# Altium schematic symbol library SparkFun-Connectors.SCHLIB: 425 symbols (part 1 of 12)
Pins are listed as number, name and electrical type; pins without a type are passive.

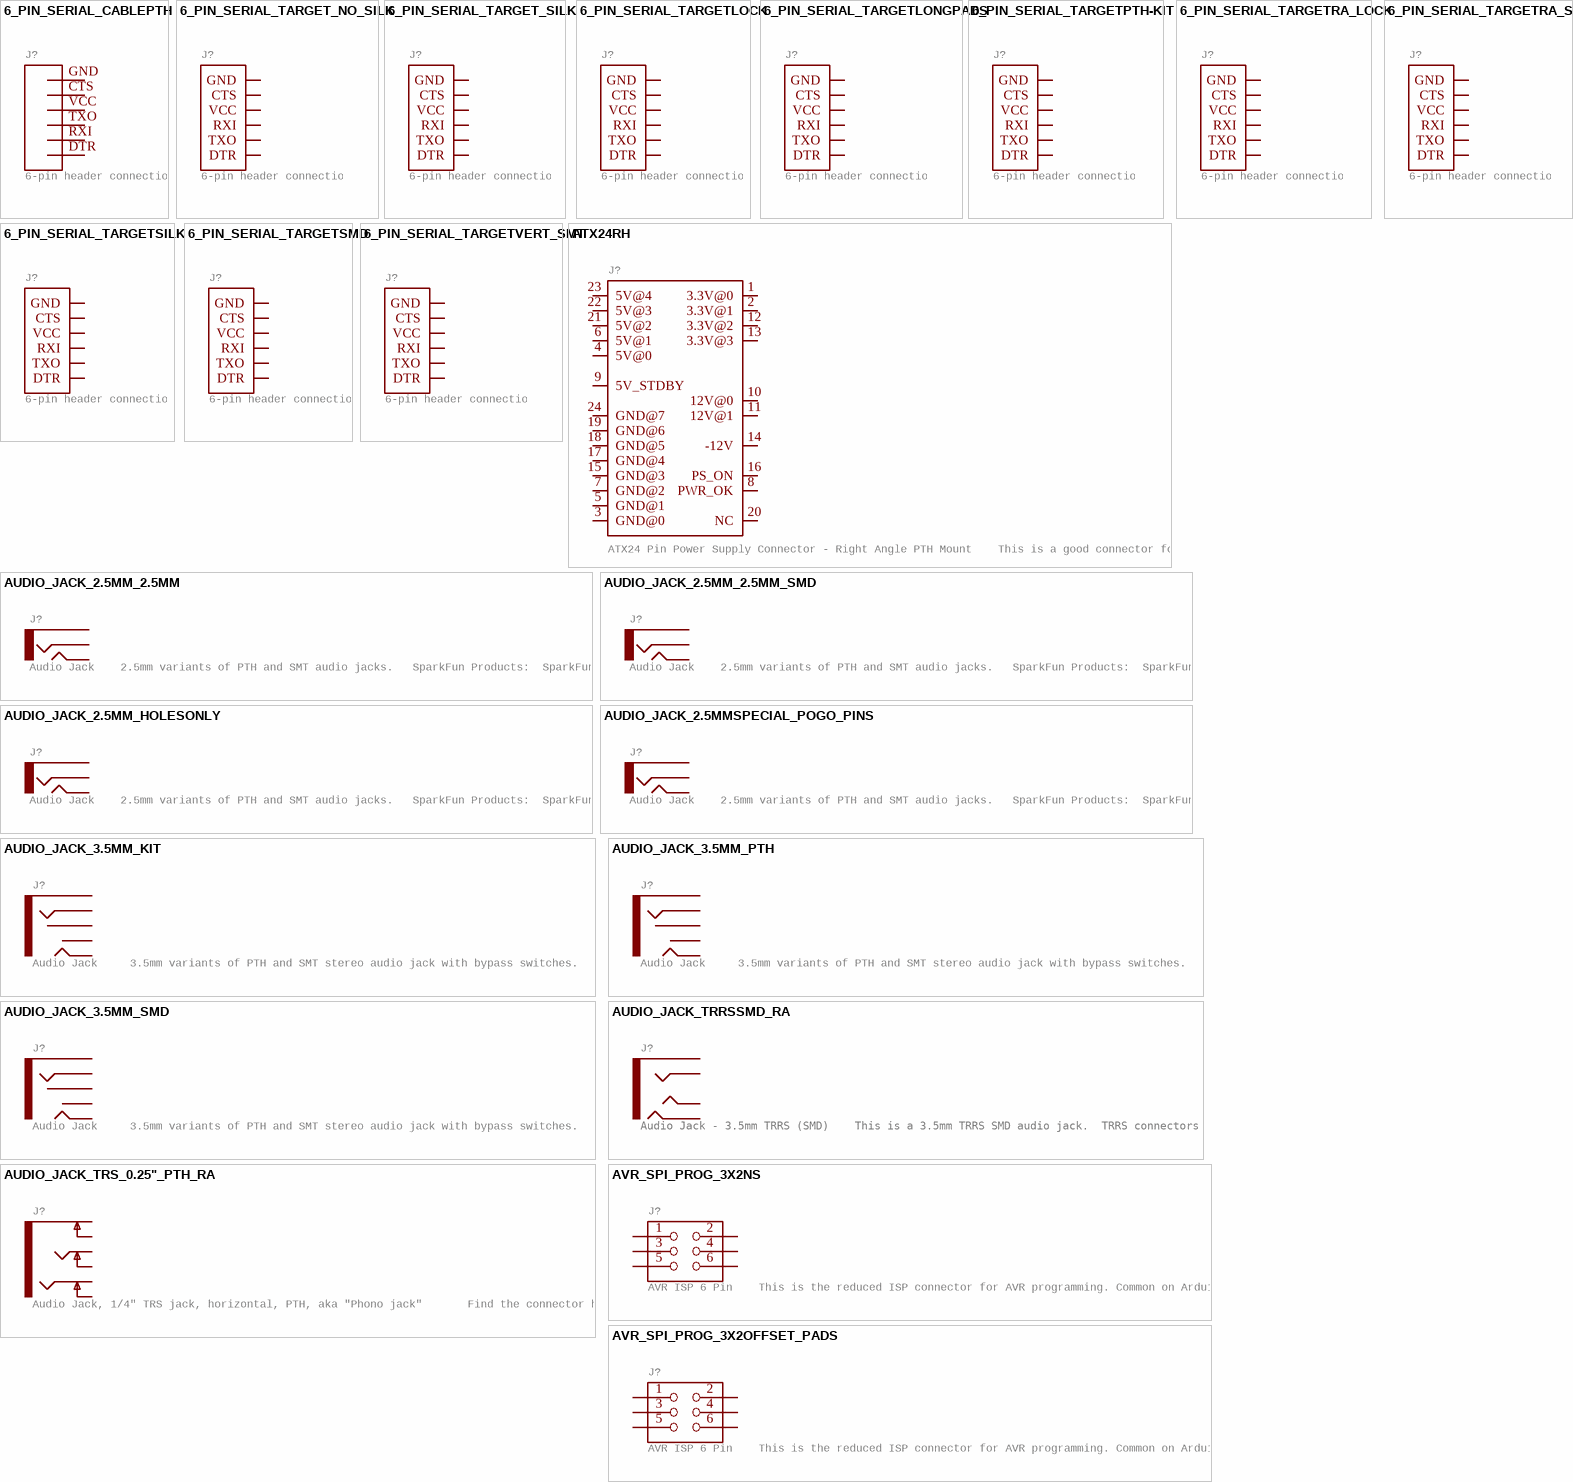
[diagram p0: symbols 6_PIN_SERIAL_CABLEPTH to AVR_SPI_PROG_3X2OFFSET_PADS]

## 6_PIN_SERIAL_CABLEPTH
designator J?, comment 6-pin header connection for use with the "FTDI BASIC" pinout - CABLE SIDE.     Also known as "Arduino Serial Program Header".    This is used on a design to provide a 6-pin connection point for serial communication usually from a USB cable (D+/D-) to these headers (RX/TX). It also has the remaining pins necessary for programming in the Arduino evironment (DTR, GND, and sometimes VCC).    Note, this device has "CABLE" in the name.  It is intended to be used on a design that usually lives on the end of your USB cable and prvides the converter chip (FTDI232 or FTDI231x) to commnicate serial RX/TX.     The "sister" device, named "TARGET" is inteneded to be used on a design that contains a target micro-controller that you wish to program.    You can populate with some of these:  Female Headers (PRT-00115)       For reference (or to suit your programming needs) check out these designs:   SparkFun FTDI Basic Breakout - 5V (DEV-09716)   SparkFun FTDI Basic Breakout - 3.3V (DEV-09873)   SparkFun FTDI SmartBasic (DEV-12935)   SparkFun Beefy 3 - FTDI Basic Breakout (DEV-13746)
GateName_1: G$1; SymbolName_1: CONN_06; DeviceName: PTH; DeviceSetName: 6_PIN_SERIAL_CABLE; LibraryName: SparkFun-Connectors; Package: FTDI_BASIC
footprint FTDI_BASIC
pins: CTS 5, DTR 1, GND 6, RXI 2, TXO 3, VCC 4

## 6_PIN_SERIAL_TARGET_NO_SILK
designator J?, comment 6-pin header connection for use with the "FTDI BASIC" pinout - TARGET SIDE.     Also known as "Arduino Serial Program Header".    It is used to mate with our FTDI Basic serial programmers using the Arduino IDE.    Note, this device has "TARGET" in the name. It is intended to be used on a design that contains a target micro-controller that you wish to program.    The "sister" device, named "CABLE" is inteneded to be used on a design that usually lives on the end of your USB cable and prvides the converter chip (FTDI232 or FTDI231x) to commnicate serial RX/TX.    You can populate with some of these:    Break Away Headers - Straight (PRT-00116)   For reference (or to suit your programming needs) check out these designs:   SparkFun FTDI Basic Breakout - 5V (DEV-09716)   SparkFun FTDI Basic Breakout - 3.3V (DEV-09873)   SparkFun FTDI SmartBasic (DEV-12935)   SparkFun Beefy 3 - FTDI Basic Breakout (DEV-13746)
GateName_1: G$1; SymbolName_1: ARDUINO_SERIAL_PROGRAM; DeviceName: _NO_SILK; DeviceSetName: 6_PIN_SERIAL_TARGET; LibraryName: SparkFun-Connectors; Package: 1X06_NO_SILK
footprint 1X06_NO_SILK
pins: 1 DTR, 2 RXI, 3 TXO, 4 VCC, 5 CTS, 6 GND

## 6_PIN_SERIAL_TARGET_SILK
designator J?, comment 6-pin header connection for use with the "FTDI BASIC" pinout - TARGET SIDE.     Also known as "Arduino Serial Program Header".    It is used to mate with our FTDI Basic serial programmers using the Arduino IDE.    Note, this device has "TARGET" in the name. It is intended to be used on a design that contains a target micro-controller that you wish to program.    The "sister" device, named "CABLE" is inteneded to be used on a design that usually lives on the end of your USB cable and prvides the converter chip (FTDI232 or FTDI231x) to commnicate serial RX/TX.    You can populate with some of these:    Break Away Headers - Straight (PRT-00116)   For reference (or to suit your programming needs) check out these designs:   SparkFun FTDI Basic Breakout - 5V (DEV-09716)   SparkFun FTDI Basic Breakout - 3.3V (DEV-09873)   SparkFun FTDI SmartBasic (DEV-12935)   SparkFun Beefy 3 - FTDI Basic Breakout (DEV-13746)
GateName_1: G$1; SymbolName_1: ARDUINO_SERIAL_PROGRAM; DeviceName: _SILK; DeviceSetName: 6_PIN_SERIAL_TARGET; LibraryName: SparkFun-Connectors; Package: 1X06
footprint 1X06
pins: 1 DTR, 2 RXI, 3 TXO, 4 VCC, 5 CTS, 6 GND

## 6_PIN_SERIAL_TARGETLOCK
designator J?, comment 6-pin header connection for use with the "FTDI BASIC" pinout - TARGET SIDE.     Also known as "Arduino Serial Program Header".    It is used to mate with our FTDI Basic serial programmers using the Arduino IDE.    Note, this device has "TARGET" in the name. It is intended to be used on a design that contains a target micro-controller that you wish to program.    The "sister" device, named "CABLE" is inteneded to be used on a design that usually lives on the end of your USB cable and prvides the converter chip (FTDI232 or FTDI231x) to commnicate serial RX/TX.    You can populate with some of these:    Break Away Headers - Straight (PRT-00116)   For reference (or to suit your programming needs) check out these designs:   SparkFun FTDI Basic Breakout - 5V (DEV-09716)   SparkFun FTDI Basic Breakout - 3.3V (DEV-09873)   SparkFun FTDI SmartBasic (DEV-12935)   SparkFun Beefy 3 - FTDI Basic Breakout (DEV-13746)
GateName_1: G$1; SymbolName_1: ARDUINO_SERIAL_PROGRAM; DeviceName: LOCK; DeviceSetName: 6_PIN_SERIAL_TARGET; PROD_ID: CONN-08437; LibraryName: SparkFun-Connectors; Package: 1X06_LOCK
footprint 1X06_LOCK
pins: 1 DTR, 2 RXI, 3 TXO, 4 VCC, 5 CTS, 6 GND

## 6_PIN_SERIAL_TARGETLONGPADS
designator J?, comment 6-pin header connection for use with the "FTDI BASIC" pinout - TARGET SIDE.     Also known as "Arduino Serial Program Header".    It is used to mate with our FTDI Basic serial programmers using the Arduino IDE.    Note, this device has "TARGET" in the name. It is intended to be used on a design that contains a target micro-controller that you wish to program.    The "sister" device, named "CABLE" is inteneded to be used on a design that usually lives on the end of your USB cable and prvides the converter chip (FTDI232 or FTDI231x) to commnicate serial RX/TX.    You can populate with some of these:    Break Away Headers - Straight (PRT-00116)   For reference (or to suit your programming needs) check out these designs:   SparkFun FTDI Basic Breakout - 5V (DEV-09716)   SparkFun FTDI Basic Breakout - 3.3V (DEV-09873)   SparkFun FTDI SmartBasic (DEV-12935)   SparkFun Beefy 3 - FTDI Basic Breakout (DEV-13746)
GateName_1: G$1; SymbolName_1: ARDUINO_SERIAL_PROGRAM; DeviceName: LONGPADS; DeviceSetName: 6_PIN_SERIAL_TARGET; LibraryName: SparkFun-Connectors; Package: 1X06_LONGPADS
footprint 1X06_LONGPADS
pins: 1 DTR, 2 RXI, 3 TXO, 4 VCC, 5 CTS, 6 GND

## 6_PIN_SERIAL_TARGETPTH-KIT
designator J?, comment 6-pin header connection for use with the "FTDI BASIC" pinout - TARGET SIDE.     Also known as "Arduino Serial Program Header".    It is used to mate with our FTDI Basic serial programmers using the Arduino IDE.    Note, this device has "TARGET" in the name. It is intended to be used on a design that contains a target micro-controller that you wish to program.    The "sister" device, named "CABLE" is inteneded to be used on a design that usually lives on the end of your USB cable and prvides the converter chip (FTDI232 or FTDI231x) to commnicate serial RX/TX.    You can populate with some of these:    Break Away Headers - Straight (PRT-00116)   For reference (or to suit your programming needs) check out these designs:   SparkFun FTDI Basic Breakout - 5V (DEV-09716)   SparkFun FTDI Basic Breakout - 3.3V (DEV-09873)   SparkFun FTDI SmartBasic (DEV-12935)   SparkFun Beefy 3 - FTDI Basic Breakout (DEV-13746)
GateName_1: G$1; SymbolName_1: ARDUINO_SERIAL_PROGRAM; DeviceName: PTH-KIT; DeviceSetName: 6_PIN_SERIAL_TARGET; LibraryName: SparkFun-Connectors; Package: 1X06-KIT
footprint 1X06-KIT
pins: 1 DTR, 2 RXI, 3 TXO, 4 VCC, 5 CTS, 6 GND

## 6_PIN_SERIAL_TARGETRA_LOCK
designator J?, comment 6-pin header connection for use with the "FTDI BASIC" pinout - TARGET SIDE.     Also known as "Arduino Serial Program Header".    It is used to mate with our FTDI Basic serial programmers using the Arduino IDE.    Note, this device has "TARGET" in the name. It is intended to be used on a design that contains a target micro-controller that you wish to program.    The "sister" device, named "CABLE" is inteneded to be used on a design that usually lives on the end of your USB cable and prvides the converter chip (FTDI232 or FTDI231x) to commnicate serial RX/TX.    You can populate with some of these:    Break Away Headers - Straight (PRT-00116)   For reference (or to suit your programming needs) check out these designs:   SparkFun FTDI Basic Breakout - 5V (DEV-09716)   SparkFun FTDI Basic Breakout - 3.3V (DEV-09873)   SparkFun FTDI SmartBasic (DEV-12935)   SparkFun Beefy 3 - FTDI Basic Breakout (DEV-13746)
GateName_1: G$1; SymbolName_1: ARDUINO_SERIAL_PROGRAM; DeviceName: RA_LOCK; DeviceSetName: 6_PIN_SERIAL_TARGET; LibraryName: SparkFun-Connectors; Package: MOLEX_1X6_RA_LOCK
footprint MOLEX_1X6_RA_LOCK
pins: 1 GND, 2 CTS, 3 VCC, 4 TXO, 5 RXI, 6 DTR

## 6_PIN_SERIAL_TARGETRA_SMT
designator J?, comment 6-pin header connection for use with the "FTDI BASIC" pinout - TARGET SIDE.     Also known as "Arduino Serial Program Header".    It is used to mate with our FTDI Basic serial programmers using the Arduino IDE.    Note, this device has "TARGET" in the name. It is intended to be used on a design that contains a target micro-controller that you wish to program.    The "sister" device, named "CABLE" is inteneded to be used on a design that usually lives on the end of your USB cable and prvides the converter chip (FTDI232 or FTDI231x) to commnicate serial RX/TX.    You can populate with some of these:    Break Away Headers - Straight (PRT-00116)   For reference (or to suit your programming needs) check out these designs:   SparkFun FTDI Basic Breakout - 5V (DEV-09716)   SparkFun FTDI Basic Breakout - 3.3V (DEV-09873)   SparkFun FTDI SmartBasic (DEV-12935)   SparkFun Beefy 3 - FTDI Basic Breakout (DEV-13746)
GateName_1: G$1; SymbolName_1: ARDUINO_SERIAL_PROGRAM; DeviceName: RA_SMT; DeviceSetName: 6_PIN_SERIAL_TARGET; PROD_ID: CONN-08971; LibraryName: SparkFun-Connectors; Package: 6_PIN_SERIAL_TARGET_SIDE_RA_SMT
footprint 6_PIN_SERIAL_TARGET_SIDE_RA_SMT
pins: 1 DTR, 2 TXO, 3 RXI, 4 VCC, 5 CTS, 6 GND

## 6_PIN_SERIAL_TARGETSILK
designator J?, comment 6-pin header connection for use with the "FTDI BASIC" pinout - TARGET SIDE.     Also known as "Arduino Serial Program Header".    It is used to mate with our FTDI Basic serial programmers using the Arduino IDE.    Note, this device has "TARGET" in the name. It is intended to be used on a design that contains a target micro-controller that you wish to program.    The "sister" device, named "CABLE" is inteneded to be used on a design that usually lives on the end of your USB cable and prvides the converter chip (FTDI232 or FTDI231x) to commnicate serial RX/TX.    You can populate with some of these:    Break Away Headers - Straight (PRT-00116)   For reference (or to suit your programming needs) check out these designs:   SparkFun FTDI Basic Breakout - 5V (DEV-09716)   SparkFun FTDI Basic Breakout - 3.3V (DEV-09873)   SparkFun FTDI SmartBasic (DEV-12935)   SparkFun Beefy 3 - FTDI Basic Breakout (DEV-13746)
GateName_1: G$1; SymbolName_1: ARDUINO_SERIAL_PROGRAM; DeviceName: SILK; DeviceSetName: 6_PIN_SERIAL_TARGET; LibraryName: SparkFun-Connectors; Package: 6_PIN_SERIAL_TARGET_SIDE_W_SILK
footprint 6_PIN_SERIAL_TARGET_SIDE_W_SILK
pins: 1 DTR, 2 TXO, 3 RXI, 4 VCC, 5 CTS, 6 GND

## 6_PIN_SERIAL_TARGETSMD
designator J?, comment 6-pin header connection for use with the "FTDI BASIC" pinout - TARGET SIDE.     Also known as "Arduino Serial Program Header".    It is used to mate with our FTDI Basic serial programmers using the Arduino IDE.    Note, this device has "TARGET" in the name. It is intended to be used on a design that contains a target micro-controller that you wish to program.    The "sister" device, named "CABLE" is inteneded to be used on a design that usually lives on the end of your USB cable and prvides the converter chip (FTDI232 or FTDI231x) to commnicate serial RX/TX.    You can populate with some of these:    Break Away Headers - Straight (PRT-00116)   For reference (or to suit your programming needs) check out these designs:   SparkFun FTDI Basic Breakout - 5V (DEV-09716)   SparkFun FTDI Basic Breakout - 3.3V (DEV-09873)   SparkFun FTDI SmartBasic (DEV-12935)   SparkFun Beefy 3 - FTDI Basic Breakout (DEV-13746)
GateName_1: G$1; SymbolName_1: ARDUINO_SERIAL_PROGRAM; DeviceName: SMD; DeviceSetName: 6_PIN_SERIAL_TARGET; PROD_ID: CONN-08971; LibraryName: SparkFun-Connectors; Package: 1X06-SMD_RA_MALE
footprint 1X06-SMD_RA_MALE
pins: 1 DTR, 2 RXI, 3 TXO, 4 VCC, 5 CTS, 6 GND

## 6_PIN_SERIAL_TARGETVERT_SMT
designator J?, comment 6-pin header connection for use with the "FTDI BASIC" pinout - TARGET SIDE.     Also known as "Arduino Serial Program Header".    It is used to mate with our FTDI Basic serial programmers using the Arduino IDE.    Note, this device has "TARGET" in the name. It is intended to be used on a design that contains a target micro-controller that you wish to program.    The "sister" device, named "CABLE" is inteneded to be used on a design that usually lives on the end of your USB cable and prvides the converter chip (FTDI232 or FTDI231x) to commnicate serial RX/TX.    You can populate with some of these:    Break Away Headers - Straight (PRT-00116)   For reference (or to suit your programming needs) check out these designs:   SparkFun FTDI Basic Breakout - 5V (DEV-09716)   SparkFun FTDI Basic Breakout - 3.3V (DEV-09873)   SparkFun FTDI SmartBasic (DEV-12935)   SparkFun Beefy 3 - FTDI Basic Breakout (DEV-13746)
GateName_1: G$1; SymbolName_1: ARDUINO_SERIAL_PROGRAM; DeviceName: VERT_SMT; DeviceSetName: 6_PIN_SERIAL_TARGET; PROD_ID: CONN-10203; LibraryName: SparkFun-Connectors; Package: 6_PIN_SERIAL_TARGET_SIDE_VERT_SMT
footprint 6_PIN_SERIAL_TARGET_SIDE_VERT_SMT
pins: 1,1-2 DTR, 2,2-2 TXO, 3,3-2 RXI, 4,4-2 VCC, 5,5-2 CTS, 6,6-2 GND

## ATX24RH
designator J?, comment ATX24 Pin Power Supply Connector - Right Angle PTH Mount    This is a good connector for connecting a computer power supply to a PCB. It's massive, but provides many amps of power at 5V and 12V.   SparkFun Products:  SparkFun Benchtop Power Board Kit  SparkFun Power Driver Shield Kit
GateName_1: G$1; SymbolName_1: ATX24-1; DeviceName: RH; PROD_ID: CONN-09674; SF_ID: PRT-09498; LibraryName: SparkFun-Connectors; DeviceSetName: ATX24; Package: ATX24_RIGHT_ANGLE
footprint ATX24_RIGHT_ANGLE
pins: 1 3.3V@0 (io), 2 3.3V@1 (io), 3 GND@0 (io), 4 5V@0 (io), 5 GND@1 (io), 6 5V@1 (io), 7 GND@2 (io), 8 PWR_OK (io), 9 5V_STDBY (io), 10 12V@0 (io), 11 12V@1 (io), 12 3.3V@2 (io), 13 3.3V@3 (io), 14 -12V (io), 15 GND@3 (io), 16 PS_ON (io), 17 GND@4 (io), 18 GND@5 (io), 19 GND@6 (io), 20 NC (io), 21 5V@2 (io), 22 5V@3 (io), 23 5V@4 (io), 24 GND@7 (io)

## AUDIO_JACK_2.5MM_2.5MM
designator J?, comment Audio Jack    2.5mm variants of PTH and SMT audio jacks.   SparkFun Products:  SparkFun PicoBoard- 2.5mm SMD
GateName_1: G$1; SymbolName_1: AUDIO-JACK; DeviceName: _2.5MM; DeviceSetName: AUDIO_JACK_2.5MM; PROD_ID: CONN-09878; LibraryName: SparkFun-Connectors; Package: STEREOJACK2.5MM_STEREOJACK2.5MM
footprint STEREOJACK2.5MM_STEREOJACK2.5MM
pins: RING1 SLEEVE (io), SHIELD LEFT (io), TIP RIGHT (io)

## AUDIO_JACK_2.5MM_2.5MM_SMD
designator J?, comment Audio Jack    2.5mm variants of PTH and SMT audio jacks.   SparkFun Products:  SparkFun PicoBoard- 2.5mm SMD
GateName_1: G$1; SymbolName_1: AUDIO-JACK; DeviceName: _2.5MM_SMD; DeviceSetName: AUDIO_JACK_2.5MM; PROD_ID: CONN-10062; LibraryName: SparkFun-Connectors; Package: STEREOJACK2.5MM
footprint STEREOJACK2.5MM
pins: 1 LEFT (io), 4 RIGHT (io), 5 SLEEVE (io)

## AUDIO_JACK_2.5MM_HOLESONLY
designator J?, comment Audio Jack    2.5mm variants of PTH and SMT audio jacks.   SparkFun Products:  SparkFun PicoBoard- 2.5mm SMD
GateName_1: G$1; SymbolName_1: AUDIO-JACK; DeviceName: _HOLESONLY; DeviceSetName: AUDIO_JACK_2.5MM; LibraryName: SparkFun-Connectors; Package: STEREOJACK2.5MM_SPECIAL_HOLES-ONLY
footprint STEREOJACK2.5MM_SPECIAL_HOLES-ONLY
pins: RING1 SLEEVE (io), SHIELD LEFT (io), TIP RIGHT (io)

## AUDIO_JACK_2.5MMSPECIAL_POGO_PINS
designator J?, comment Audio Jack    2.5mm variants of PTH and SMT audio jacks.   SparkFun Products:  SparkFun PicoBoard- 2.5mm SMD
GateName_1: G$1; SymbolName_1: AUDIO-JACK; DeviceName: SPECIAL_POGO_PINS; DeviceSetName: AUDIO_JACK_2.5MM; LibraryName: SparkFun-Connectors; Package: STEREOJACK2.5MM_SPECIAL_POGOPINS
footprint STEREOJACK2.5MM_SPECIAL_POGOPINS
pins: RING1 SLEEVE (io), SHIELD LEFT (io), TIP RIGHT (io)

## AUDIO_JACK_3.5MM_KIT
designator J?, comment Audio Jack     3.5mm variants of PTH and SMT stereo audio jack with bypass switches.   SparkFun Products:  SparkFun SparkPunk Sound Kit  - PTH  MP3 Trigger -3.5mm SMD  SparkFun PicoBoard- 2.5mm SMD
GateName_1: G$1; SymbolName_1: AUDIO-JACK2; DeviceName: _KIT; DeviceSetName: AUDIO_JACK_3.5MM; PROD_ID: CONN-08774; SF_ID: PRT-08032; LibraryName: SparkFun-Connectors; Package: AUDIO-JACK-KIT
footprint AUDIO-JACK-KIT
pins: RING (io), RSH (io), SLEEVE (io), TIP (io), TSH (io)

## AUDIO_JACK_3.5MM_PTH
designator J?, comment Audio Jack     3.5mm variants of PTH and SMT stereo audio jack with bypass switches.   SparkFun Products:  SparkFun SparkPunk Sound Kit  - PTH  MP3 Trigger -3.5mm SMD  SparkFun PicoBoard- 2.5mm SMD
GateName_1: G$1; SymbolName_1: AUDIO-JACK2; DeviceName: _PTH; DeviceSetName: AUDIO_JACK_3.5MM; PROD_ID: CONN-08774; SF_ID: PRT-08032; LibraryName: SparkFun-Connectors; Package: AUDIO-JACK
footprint AUDIO-JACK
pins: RING (io), RSH (io), SLEEVE (io), TIP (io), TSH (io)

## AUDIO_JACK_3.5MM_SMD
designator J?, comment Audio Jack     3.5mm variants of PTH and SMT stereo audio jack with bypass switches.   SparkFun Products:  SparkFun SparkPunk Sound Kit  - PTH  MP3 Trigger -3.5mm SMD  SparkFun PicoBoard- 2.5mm SMD
GateName_1: G$1; SymbolName_1: AUDIO-JACK2; DeviceName: _SMD; DeviceSetName: AUDIO_JACK_3.5MM; PROD_ID: CONN-10353; LibraryName: SparkFun-Connectors; Package: AUDIO-JACK-3.5MM-SMD
footprint AUDIO-JACK-3.5MM-SMD
pins: RING (io), RSH (io), SLEEVE (io), TIP (io), TSH (io)

## AUDIO_JACK_TRRSSMD_RA
designator J?, comment Audio Jack - 3.5mm TRRS (SMD)    This is a 3.5mm TRRS SMD audio jack.  TRRS connectors are the audio-style connectors that you see on some phones, MP3 players and development boards.  TRRS stands for â€œtip, ring, ring, sleeve,â€ which reflects that this  has three conductors and a ground.    SparkFun Products: Audio Jack  mbed Starter Kit  SparkFun TRRS 3.5mm Jack Breakout
GateName_1: G$1; SymbolName_1: AUDIO-JACK3-TRRS; DeviceName: SMD_RA; DeviceSetName: AUDIO_JACK_TRRS; PROD_ID: CONN-10676; SF_ID: PRT-12639; LibraryName: SparkFun-Connectors; Package: AUDIO_JACK_3.5MM_TRRS_SMD_RA
footprint AUDIO_JACK_3.5MM_TRRS_SMD_RA
pins: EARTH (io), RING1 (io), RING2 (io), TIP (io)

## AUDIO_JACK_TRS_0.25"_PTH_RA
designator J?, comment Audio Jack, 1/4" TRS jack, horizontal, PTH, aka "Phono jack"       Find the connector here:  Audio Jack - 1/4" Stereo (right angle) (COM-11144)  Datasheet  Note, although the datasheet and physical part are slightly different, this footprint was proven to mate well on the Proto Pedal.          This device is used on these SparkFun Products:  SparkFun TRS Jack Breakout - 1/4" Stereo (BOB-13005 )   SparkFun Proto Pedal - sorry bad link - product comming soon! (PRT-13124)
GateName_1: G$1; SymbolName_1: AUDIO-JACK4-TRS-NORMALED-GND-1; DeviceSetName: AUDIO_JACK_TRS_0.25"_PTH_RA; PROD_ID: CONN-12339; LibraryName: SparkFun-Connectors; Package: AUDIO_JACK_0.25"_TRS_PTH_RA; SF_ID: COM-11144
footprint AUDIO_JACK_0.25"_TRS_PTH_RA
pins: RING (io), RING-NORM (io), SLEEVE EARTH (io), SLEEVE-NORM EARTH-NORM (io), TIP (io), TIP-NORM (io)

## AVR_SPI_PROG_3X2NS
designator J?, comment AVR ISP 6 Pin    This is the reduced ISP connector for AVR programming. Common on Arduino. This footprint will take up less PCB space and can be used with a 10-pin to 6-pin adapter such as SKU: BOB-08508   **Special note about "TEST_POINT" package. The stop mask is on the top side, so if you want your programming test points to be on the bottom of your board, make sure to place this package on the bottom side of the board. This also ensure that the orientation to program from the bottom side will be correct.   SparkFun Products:  SparkFun ISP Pogo Adapter - NS  Tiny AVR Programmer -PTH
GateName_1: G$1; SymbolName_1: AVR_SPI_PROGRAMMER_6; DeviceSetName: AVR_SPI_PROG_3X2; DeviceName: NS; LibraryName: SparkFun-Connectors; Package: 2X3-NS
footprint 2X3-NS
pins: 1, 2, 3, 4, 5, 6

## AVR_SPI_PROG_3X2OFFSET_PADS
designator J?, comment AVR ISP 6 Pin    This is the reduced ISP connector for AVR programming. Common on Arduino. This footprint will take up less PCB space and can be used with a 10-pin to 6-pin adapter such as SKU: BOB-08508   **Special note about "TEST_POINT" package. The stop mask is on the top side, so if you want your programming test points to be on the bottom of your board, make sure to place this package on the bottom side of the board. This also ensure that the orientation to program from the bottom side will be correct.   SparkFun Products:  SparkFun ISP Pogo Adapter - NS  Tiny AVR Programmer -PTH
GateName_1: G$1; SymbolName_1: AVR_SPI_PROGRAMMER_6; DeviceName: OFFSET_PADS; DeviceSetName: AVR_SPI_PROG_3X2; LibraryName: SparkFun-Connectors; Package: 2X3_OFFSET
footprint 2X3_OFFSET
pins: 1, 2, 3, 4, 5, 6

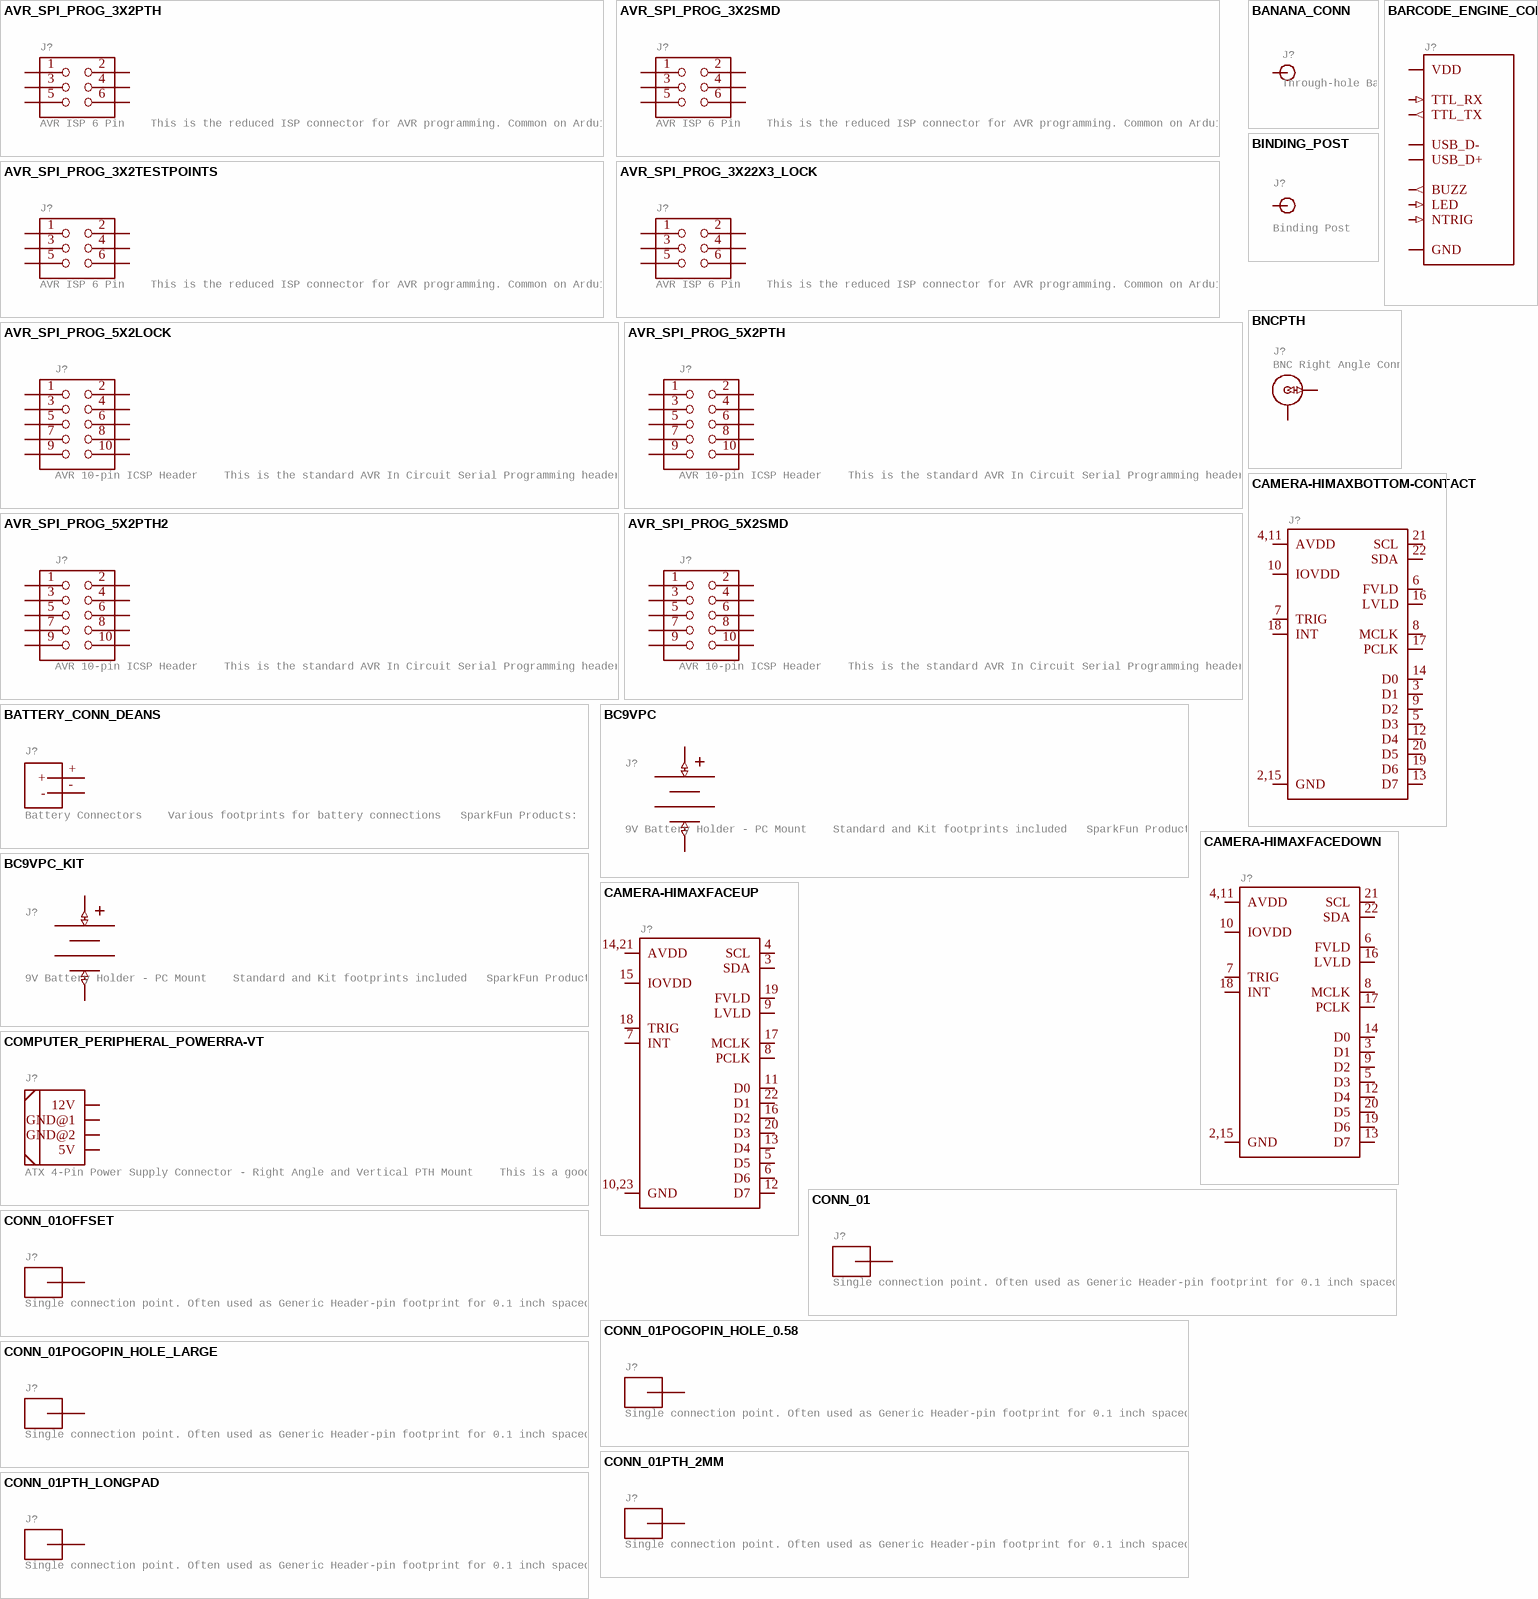
[diagram p1: symbols AVR_SPI_PROG_3X2PTH to CONN_01PTH_LONGPAD]

## AVR_SPI_PROG_3X2PTH
designator J?, comment AVR ISP 6 Pin    This is the reduced ISP connector for AVR programming. Common on Arduino. This footprint will take up less PCB space and can be used with a 10-pin to 6-pin adapter such as SKU: BOB-08508   **Special note about "TEST_POINT" package. The stop mask is on the top side, so if you want your programming test points to be on the bottom of your board, make sure to place this package on the bottom side of the board. This also ensure that the orientation to program from the bottom side will be correct.   SparkFun Products:  SparkFun ISP Pogo Adapter - NS  Tiny AVR Programmer -PTH
GateName_1: G$1; SymbolName_1: AVR_SPI_PROGRAMMER_6; DeviceName: PTH; DeviceSetName: AVR_SPI_PROG_3X2; LibraryName: SparkFun-Connectors; Package: 2X3
footprint 2X3
pins: 1, 2, 3, 4, 5, 6

## AVR_SPI_PROG_3X2SMD
designator J?, comment AVR ISP 6 Pin    This is the reduced ISP connector for AVR programming. Common on Arduino. This footprint will take up less PCB space and can be used with a 10-pin to 6-pin adapter such as SKU: BOB-08508   **Special note about "TEST_POINT" package. The stop mask is on the top side, so if you want your programming test points to be on the bottom of your board, make sure to place this package on the bottom side of the board. This also ensure that the orientation to program from the bottom side will be correct.   SparkFun Products:  SparkFun ISP Pogo Adapter - NS  Tiny AVR Programmer -PTH
GateName_1: G$1; SymbolName_1: AVR_SPI_PROGRAMMER_6; DeviceName: SMD; DeviceSetName: AVR_SPI_PROG_3X2; LibraryName: SparkFun-Connectors; Package: 2X3_SMT_POSTS
footprint 2X3_SMT_POSTS
pins: 1, 2, 3, 4, 5, 6

## AVR_SPI_PROG_3X2TESTPOINTS
designator J?, comment AVR ISP 6 Pin    This is the reduced ISP connector for AVR programming. Common on Arduino. This footprint will take up less PCB space and can be used with a 10-pin to 6-pin adapter such as SKU: BOB-08508   **Special note about "TEST_POINT" package. The stop mask is on the top side, so if you want your programming test points to be on the bottom of your board, make sure to place this package on the bottom side of the board. This also ensure that the orientation to program from the bottom side will be correct.   SparkFun Products:  SparkFun ISP Pogo Adapter - NS  Tiny AVR Programmer -PTH
GateName_1: G$1; SymbolName_1: AVR_SPI_PROGRAMMER_6; DeviceSetName: AVR_SPI_PROG_3X2; DeviceName: TESTPOINTS; LibraryName: SparkFun-Connectors; Package: 2X3_TEST_POINTS
footprint 2X3_TEST_POINTS
pins: 1, 2, 3, 4, 5, 6

## AVR_SPI_PROG_3X22X3_LOCK
designator J?, comment AVR ISP 6 Pin    This is the reduced ISP connector for AVR programming. Common on Arduino. This footprint will take up less PCB space and can be used with a 10-pin to 6-pin adapter such as SKU: BOB-08508   **Special note about "TEST_POINT" package. The stop mask is on the top side, so if you want your programming test points to be on the bottom of your board, make sure to place this package on the bottom side of the board. This also ensure that the orientation to program from the bottom side will be correct.   SparkFun Products:  SparkFun ISP Pogo Adapter - NS  Tiny AVR Programmer -PTH
GateName_1: G$1; SymbolName_1: AVR_SPI_PROGRAMMER_6; DeviceName: 2X3_LOCK; DeviceSetName: AVR_SPI_PROG_3X2; LibraryName: SparkFun-Connectors; Package: 2X3_LOCK
footprint 2X3_LOCK
pins: 1, 2, 3, 4, 5, 6

## AVR_SPI_PROG_5X2LOCK
designator J?, comment AVR 10-pin ICSP Header    This is the standard AVR In Circuit Serial Programming header. Minimal, but includes pin one indicator. Works with standard Olimex programmers.    SparkFun Products:  2x5 AVR ICSP Male Header - PTH  2x5 Pin Shrouded Header - PTH2
GateName_1: G$1; SymbolName_1: AVR_SPI_PROGRAMMER; DeviceName: LOCK; DeviceSetName: AVR_SPI_PROG_5X2; PROD_ID: CONN-08671; SF_ID: PRT-08506; LibraryName: SparkFun-Connectors; Package: 2X5-SHROUDED_LOCK
footprint 2X5-SHROUDED_LOCK
pins: 1 MOSI, 2 VCC (power), 3 NC, 4 GND@1 (power), 5 RESET, 6 GND@2 (power), 7 SCK, 8 GND@3 (power), 9 MISO, 10 GND@4 (power)

## AVR_SPI_PROG_5X2PTH
designator J?, comment AVR 10-pin ICSP Header    This is the standard AVR In Circuit Serial Programming header. Minimal, but includes pin one indicator. Works with standard Olimex programmers.    SparkFun Products:  2x5 AVR ICSP Male Header - PTH  2x5 Pin Shrouded Header - PTH2
GateName_1: G$1; SymbolName_1: AVR_SPI_PROGRAMMER; DeviceSetName: AVR_SPI_PROG_5X2; DeviceName: PTH; LibraryName: SparkFun-Connectors; Package: 2X5
footprint 2X5
pins: 1 MOSI, 2 VCC (power), 3 NC, 4 GND@1 (power), 5 RESET, 6 GND@2 (power), 7 SCK, 8 GND@3 (power), 9 MISO, 10 GND@4 (power)

## AVR_SPI_PROG_5X2PTH2
designator J?, comment AVR 10-pin ICSP Header    This is the standard AVR In Circuit Serial Programming header. Minimal, but includes pin one indicator. Works with standard Olimex programmers.    SparkFun Products:  2x5 AVR ICSP Male Header - PTH  2x5 Pin Shrouded Header - PTH2
GateName_1: G$1; SymbolName_1: AVR_SPI_PROGRAMMER; DeviceSetName: AVR_SPI_PROG_5X2; PROD_ID: CONN-08671; SF_ID: PRT-08506; DeviceName: PTH2; LibraryName: SparkFun-Connectors; Package: 2X5-SHROUDED
footprint 2X5-SHROUDED
pins: 1 MOSI, 2 VCC (power), 3 NC, 4 GND@1 (power), 5 RESET, 6 GND@2 (power), 7 SCK, 8 GND@3 (power), 9 MISO, 10 GND@4 (power)

## AVR_SPI_PROG_5X2SMD
designator J?, comment AVR 10-pin ICSP Header    This is the standard AVR In Circuit Serial Programming header. Minimal, but includes pin one indicator. Works with standard Olimex programmers.    SparkFun Products:  2x5 AVR ICSP Male Header - PTH  2x5 Pin Shrouded Header - PTH2
GateName_1: G$1; SymbolName_1: AVR_SPI_PROGRAMMER; DeviceName: SMD; DeviceSetName: AVR_SPI_PROG_5X2; LibraryName: SparkFun-Connectors; Package: 2X5-SHROUDED_SMD
footprint 2X5-SHROUDED_SMD
pins: 1 MOSI, 2 VCC (power), 3 NC, 4 GND@1 (power), 5 RESET, 6 GND@2 (power), 7 SCK, 8 GND@3 (power), 9 MISO, 10 GND@4 (power)

## BANANA_CONN
designator J?, comment Through-hole Banana Jack    Basic PTH connection for banana jack plugs   SparkFun Products:  Multimeter Kit  Banana to Alligator Cable  Banana to Alligator Coax Cable  Banana to Banana Cable  Banana to IC Hook Cables
GateName_1: G$1; SymbolName_1: BANANA_CONN; LibraryName: SparkFun-Connectors; DeviceSetName: BANANA_CONN; Package: BANANA_CONN
footprint BANANA_CONN
pins: P$1 1

## BARCODE_ENGINE_CONN
designator J?
GateName_1: G$1; SymbolName_1: E3000H_BARCODE_CONN; DeviceSetName: BARCODE_ENGINE_CONN; LibraryName: SparkFun-Connectors; Package: CONN_FPC_BOTTOM_12POS_.5MM_R/A
footprint CONN_FPC_BOTTOM_12POS_.5MM_R/A
pins: P$1 NTRIG (in), P$3 LED (in), P$4 BUZZ (out), P$6 USB_D+ (io), P$7 USB_D- (io), P$8 TTL_TX (out), P$9 TTL_RX (in), P$10,13,14 GND (power), P$11 VDD (power)

## BATTERY_CONN_DEANS
designator J?, comment Battery Connectors    Various footprints for battery connections   SparkFun Products:  Deans Connector -M/F Pair
GateName_1: G$1; SymbolName_1: BATTERY_CONN; DeviceName: _DEANS; SF_ID: PRT-11864; LibraryName: SparkFun-Connectors; DeviceSetName: BATTERY_CONN; Package: DEANS
footprint DEANS
pins: +, -

## BC9VPC
designator J?, comment 9V Battery Holder - PC Mount    Standard and Kit footprints included   SparkFun Products:  SparkFun SparkPunk Sound Kit  SparkFun SparkPunk Sequencer Kit
GateName_1: G$1; SymbolName_1: BC9VPC; PROD_ID: BATT-10855; LibraryName: SparkFun-Connectors; DeviceSetName: BC9VPC; Package: BC9VPC
footprint BC9VPC
pins: V+ (io), V- (io)

## BC9VPC_KIT
designator J?, comment 9V Battery Holder - PC Mount    Standard and Kit footprints included   SparkFun Products:  SparkFun SparkPunk Sound Kit  SparkFun SparkPunk Sequencer Kit
GateName_1: G$1; SymbolName_1: BC9VPC; DeviceName: _KIT; PROD_ID: BATT-10855; LibraryName: SparkFun-Connectors; DeviceSetName: BC9VPC; Package: BC9VPC_KIT
footprint BC9VPC_KIT
pins: V+ (io), V- (io)

## BINDING_POST
designator J?, comment Binding Post    The component itself has an threaded, insulated body that goes through the board, with a small threaded metal stud coming off the back.     The intent of this package is that the post goes through a milled obling hole, and a small wire would be used to connect from the PCB pad to the metal contact on the post.    SparkFun Products: SparkFun Decade Resistance Box  SparkFun Benchtop Power Board Kit  Binding Post - Red  Binding Post - Black
GateName_1: G$1; SymbolName_1: BINDING_POST; PROD_ID: CONN-09675; SF_ID: PRT-09740; LibraryName: SparkFun-Connectors; DeviceSetName: BINDING_POST; Package: BINDING_POST
footprint BINDING_POST
pins: P$1 (io)

## BNCPTH
designator J?, comment BNC Right Angle Connector    Mouser Part# 5227161   SparkFun Products: BNC Connector - Right Angle
GateName_1: G$1; DeviceName: PTH; PROD_ID: LPA-12729; SF_ID: PRT-10550; SymbolName_1: BNC; LibraryName: SparkFun-Connectors; DeviceSetName: BNC; Package: BNC
footprint BNC
pins: GND (io), S OUT (io)

## CAMERA-HIMAXBOTTOM-CONTACT
designator J?
GateName_1: G$1; SymbolName_1: CAMERA-OV7670-MODULE; DeviceName: BOTTOM-CONTACT; DeviceSetName: CAMERA-HIMAX; PROD_ID: CONN-14233; LibraryName: SparkFun-Connectors; Package: FPC-24-AMPHENOL-SFV24R-1STE1HLF; DIGIKEY: 609-4320-2-ND
footprint FPC-24-AMPHENOL-SFV24R-1STE1HLF
pins: 2,15 GND (io), 3 D1 (io), 4,11 AVDD (io), 5 D3 (io), 6 FVLD (io), 7 TRIG (io), 8 MCLK (io), 9 D2 (io), 10 IOVDD (io), 12 D4 (io), 13 D7 (io), 14 D0 (io), 16 LVLD (io), 17 PCLK (io), 18 INT (io), 19 D6 (io), 20 D5 (io), 21 SCL (io), 22 SDA (io), MNT110,11 MNT1 (io), MNT220,21 MNT2 (io)

## CAMERA-HIMAXFACEDOWN
designator J?
GateName_1: G$1; SymbolName_1: CAMERA-OV7670-MODULE; DeviceName: FACEDOWN; DeviceSetName: CAMERA-HIMAX; PROD_ID: CONN-14195; LibraryName: SparkFun-Connectors; Package: FPC05024-42201
footprint FPC05024-42201
pins: 2,15 GND (io), 3 D1 (io), 4,11 AVDD (io), 5 D3 (io), 6 FVLD (io), 7 TRIG (io), 8 MCLK (io), 9 D2 (io), 10 IOVDD (io), 12 D4 (io), 13 D7 (io), 14 D0 (io), 16 LVLD (io), 17 PCLK (io), 18 INT (io), 19 D6 (io), 20 D5 (io), 21 SCL (io), 22 SDA (io), MNT1 (io), MNT2 (io)

## CAMERA-HIMAXFACEUP
designator J?
GateName_1: G$1; SymbolName_1: CAMERA-OV7670-MODULE; DeviceName: FACEUP; DeviceSetName: CAMERA-HIMAX; LibraryName: SparkFun-Connectors; Package: FPC05024-42201
footprint FPC05024-42201
pins: 3 SDA (io), 4 SCL (io), 5 D5 (io), 6 D6 (io), 7 INT (io), 8 PCLK (io), 9 LVLD (io), 10,23 GND (io), 11 D0 (io), 12 D7 (io), 13 D4 (io), 14,21 AVDD (io), 15 IOVDD (io), 16 D2 (io), 17 MCLK (io), 18 TRIG (io), 19 FVLD (io), 20 D3 (io), 22 D1 (io), MNT1 (io), MNT2 (io)

## COMPUTER_PERIPHERAL_POWERRA-VT
designator J?, comment ATX 4-Pin Power Supply Connector - Right Angle and Vertical PTH Mount    This is a good connector for connecting a computer power supply to a PCB. It is commonly known as the Molex series 8981 connector. The footprint is adjusted for the right angle and vertical connector mounts.   SparkFun Products:  ATX Connector Breakout Board  ATX Right Angle Connector - PTH 4-Pin  SparkFun ATX Power Connector Breakout Kit - 12V/5V (4-pin)
GateName_1: G$1; SymbolName_1: COMPUTER-PERIPHERAL-POWER; DeviceName: RA-VT; DeviceSetName: COMPUTER_PERIPHERAL_POWER; PROD_ID: PRT-15700; LibraryName: SparkFun-Connectors; Package: COMPUTER-PERIPHERAL-POWER-RA-VT
footprint COMPUTER-PERIPHERAL-POWER-RA-VT
pins: 5V, 12V, GND@1 GND@2, GND@2 GND@1

## CONN_01
designator J?, comment Single connection point. Often used as Generic Header-pin footprint for 0.1 inch spaced/style header connections       On any of the 0.1 inch spaced packages, you can populate with these:   Break Away Headers - Straight (PRT-00116)   Break Away Male Headers - Right Angle (PRT-00553)   Female Headers (PRT-00115)   Break Away Headers - Machine Pin (PRT-00117)   Break Away Female Headers - Swiss Machine Pin (PRT-00743)          This device is also useful as a general connection point to wire up your design to another part of your project. Our various solder wires solder well into these plated through hole pads.   Hook-Up Wire - Assortment (Stranded, 22 AWG) (PRT-11375)   Hook-Up Wire - Assortment (Solid Core, 22 AWG) (PRT-11367)   View the entire wire category on our website here          Special notes:    SMTSO-256-ET is a "flush mount" nut for a 4-40 screw. We mostly use this on specialty testbeds; it is a nice way to connect hardware to your PCB at an adjustable hieght.    Also note, the SNAP packages are for using a snappable style connector. We sell a baggie of snaps and they are also used on two LilyPad designs:   Snap Assortment - 30 pack (male and female) (DEV-11347)  LilyPad Arduino SimpleSnap (DEV-10941)   LilyPad SimpleSnap Protoboard (DEV-10940)
GateName_1: G$1; SymbolName_1: CONN_01; LibraryName: SparkFun-Connectors; DeviceSetName: CONN_01; Package: 1X01
footprint 1X01
pins: 1

## CONN_01OFFSET
designator J?, comment Single connection point. Often used as Generic Header-pin footprint for 0.1 inch spaced/style header connections       On any of the 0.1 inch spaced packages, you can populate with these:   Break Away Headers - Straight (PRT-00116)   Break Away Male Headers - Right Angle (PRT-00553)   Female Headers (PRT-00115)   Break Away Headers - Machine Pin (PRT-00117)   Break Away Female Headers - Swiss Machine Pin (PRT-00743)          This device is also useful as a general connection point to wire up your design to another part of your project. Our various solder wires solder well into these plated through hole pads.   Hook-Up Wire - Assortment (Stranded, 22 AWG) (PRT-11375)   Hook-Up Wire - Assortment (Solid Core, 22 AWG) (PRT-11367)   View the entire wire category on our website here          Special notes:    SMTSO-256-ET is a "flush mount" nut for a 4-40 screw. We mostly use this on specialty testbeds; it is a nice way to connect hardware to your PCB at an adjustable hieght.    Also note, the SNAP packages are for using a snappable style connector. We sell a baggie of snaps and they are also used on two LilyPad designs:   Snap Assortment - 30 pack (male and female) (DEV-11347)  LilyPad Arduino SimpleSnap (DEV-10941)   LilyPad SimpleSnap Protoboard (DEV-10940)
GateName_1: G$1; SymbolName_1: CONN_01; DeviceName: OFFSET; LibraryName: SparkFun-Connectors; DeviceSetName: CONN_01; Package: 1X01_OFFSET
footprint 1X01_OFFSET
pins: 1

## CONN_01POGOPIN_HOLE_0.58
designator J?, comment Single connection point. Often used as Generic Header-pin footprint for 0.1 inch spaced/style header connections       On any of the 0.1 inch spaced packages, you can populate with these:   Break Away Headers - Straight (PRT-00116)   Break Away Male Headers - Right Angle (PRT-00553)   Female Headers (PRT-00115)   Break Away Headers - Machine Pin (PRT-00117)   Break Away Female Headers - Swiss Machine Pin (PRT-00743)          This device is also useful as a general connection point to wire up your design to another part of your project. Our various solder wires solder well into these plated through hole pads.   Hook-Up Wire - Assortment (Stranded, 22 AWG) (PRT-11375)   Hook-Up Wire - Assortment (Solid Core, 22 AWG) (PRT-11367)   View the entire wire category on our website here          Special notes:    SMTSO-256-ET is a "flush mount" nut for a 4-40 screw. We mostly use this on specialty testbeds; it is a nice way to connect hardware to your PCB at an adjustable hieght.    Also note, the SNAP packages are for using a snappable style connector. We sell a baggie of snaps and they are also used on two LilyPad designs:   Snap Assortment - 30 pack (male and female) (DEV-11347)  LilyPad Arduino SimpleSnap (DEV-10941)   LilyPad SimpleSnap Protoboard (DEV-10940)
GateName_1: G$1; SymbolName_1: CONN_01; DeviceName: POGOPIN_HOLE_0.58; LibraryName: SparkFun-Connectors; DeviceSetName: CONN_01; Package: 1X01_POGOPIN_HOLE_0.58_DIA
footprint 1X01_POGOPIN_HOLE_0.58_DIA
pins: 1

## CONN_01POGOPIN_HOLE_LARGE
designator J?, comment Single connection point. Often used as Generic Header-pin footprint for 0.1 inch spaced/style header connections       On any of the 0.1 inch spaced packages, you can populate with these:   Break Away Headers - Straight (PRT-00116)   Break Away Male Headers - Right Angle (PRT-00553)   Female Headers (PRT-00115)   Break Away Headers - Machine Pin (PRT-00117)   Break Away Female Headers - Swiss Machine Pin (PRT-00743)          This device is also useful as a general connection point to wire up your design to another part of your project. Our various solder wires solder well into these plated through hole pads.   Hook-Up Wire - Assortment (Stranded, 22 AWG) (PRT-11375)   Hook-Up Wire - Assortment (Solid Core, 22 AWG) (PRT-11367)   View the entire wire category on our website here          Special notes:    SMTSO-256-ET is a "flush mount" nut for a 4-40 screw. We mostly use this on specialty testbeds; it is a nice way to connect hardware to your PCB at an adjustable hieght.    Also note, the SNAP packages are for using a snappable style connector. We sell a baggie of snaps and they are also used on two LilyPad designs:   Snap Assortment - 30 pack (male and female) (DEV-11347)  LilyPad Arduino SimpleSnap (DEV-10941)   LilyPad SimpleSnap Protoboard (DEV-10940)
GateName_1: G$1; SymbolName_1: CONN_01; DeviceName: POGOPIN_HOLE_LARGE; LibraryName: SparkFun-Connectors; DeviceSetName: CONN_01; Package: 1X01_POGOPIN_HOLE_0.061_DIA
footprint 1X01_POGOPIN_HOLE_0.061_DIA
pins: 1

## CONN_01PTH_2MM
designator J?, comment Single connection point. Often used as Generic Header-pin footprint for 0.1 inch spaced/style header connections       On any of the 0.1 inch spaced packages, you can populate with these:   Break Away Headers - Straight (PRT-00116)   Break Away Male Headers - Right Angle (PRT-00553)   Female Headers (PRT-00115)   Break Away Headers - Machine Pin (PRT-00117)   Break Away Female Headers - Swiss Machine Pin (PRT-00743)          This device is also useful as a general connection point to wire up your design to another part of your project. Our various solder wires solder well into these plated through hole pads.   Hook-Up Wire - Assortment (Stranded, 22 AWG) (PRT-11375)   Hook-Up Wire - Assortment (Solid Core, 22 AWG) (PRT-11367)   View the entire wire category on our website here          Special notes:    SMTSO-256-ET is a "flush mount" nut for a 4-40 screw. We mostly use this on specialty testbeds; it is a nice way to connect hardware to your PCB at an adjustable hieght.    Also note, the SNAP packages are for using a snappable style connector. We sell a baggie of snaps and they are also used on two LilyPad designs:   Snap Assortment - 30 pack (male and female) (DEV-11347)  LilyPad Arduino SimpleSnap (DEV-10941)   LilyPad SimpleSnap Protoboard (DEV-10940)
GateName_1: G$1; SymbolName_1: CONN_01; DeviceName: PTH_2MM; LibraryName: SparkFun-Connectors; DeviceSetName: CONN_01; Package: 1X01_2MM
footprint 1X01_2MM
pins: 1

## CONN_01PTH_LONGPAD
designator J?, comment Single connection point. Often used as Generic Header-pin footprint for 0.1 inch spaced/style header connections       On any of the 0.1 inch spaced packages, you can populate with these:   Break Away Headers - Straight (PRT-00116)   Break Away Male Headers - Right Angle (PRT-00553)   Female Headers (PRT-00115)   Break Away Headers - Machine Pin (PRT-00117)   Break Away Female Headers - Swiss Machine Pin (PRT-00743)          This device is also useful as a general connection point to wire up your design to another part of your project. Our various solder wires solder well into these plated through hole pads.   Hook-Up Wire - Assortment (Stranded, 22 AWG) (PRT-11375)   Hook-Up Wire - Assortment (Solid Core, 22 AWG) (PRT-11367)   View the entire wire category on our website here          Special notes:    SMTSO-256-ET is a "flush mount" nut for a 4-40 screw. We mostly use this on specialty testbeds; it is a nice way to connect hardware to your PCB at an adjustable hieght.    Also note, the SNAP packages are for using a snappable style connector. We sell a baggie of snaps and they are also used on two LilyPad designs:   Snap Assortment - 30 pack (male and female) (DEV-11347)  LilyPad Arduino SimpleSnap (DEV-10941)   LilyPad SimpleSnap Protoboard (DEV-10940)
GateName_1: G$1; SymbolName_1: CONN_01; DeviceName: PTH_LONGPAD; LibraryName: SparkFun-Connectors; DeviceSetName: CONN_01; Package: 1X01_LONGPAD
footprint 1X01_LONGPAD
pins: 1

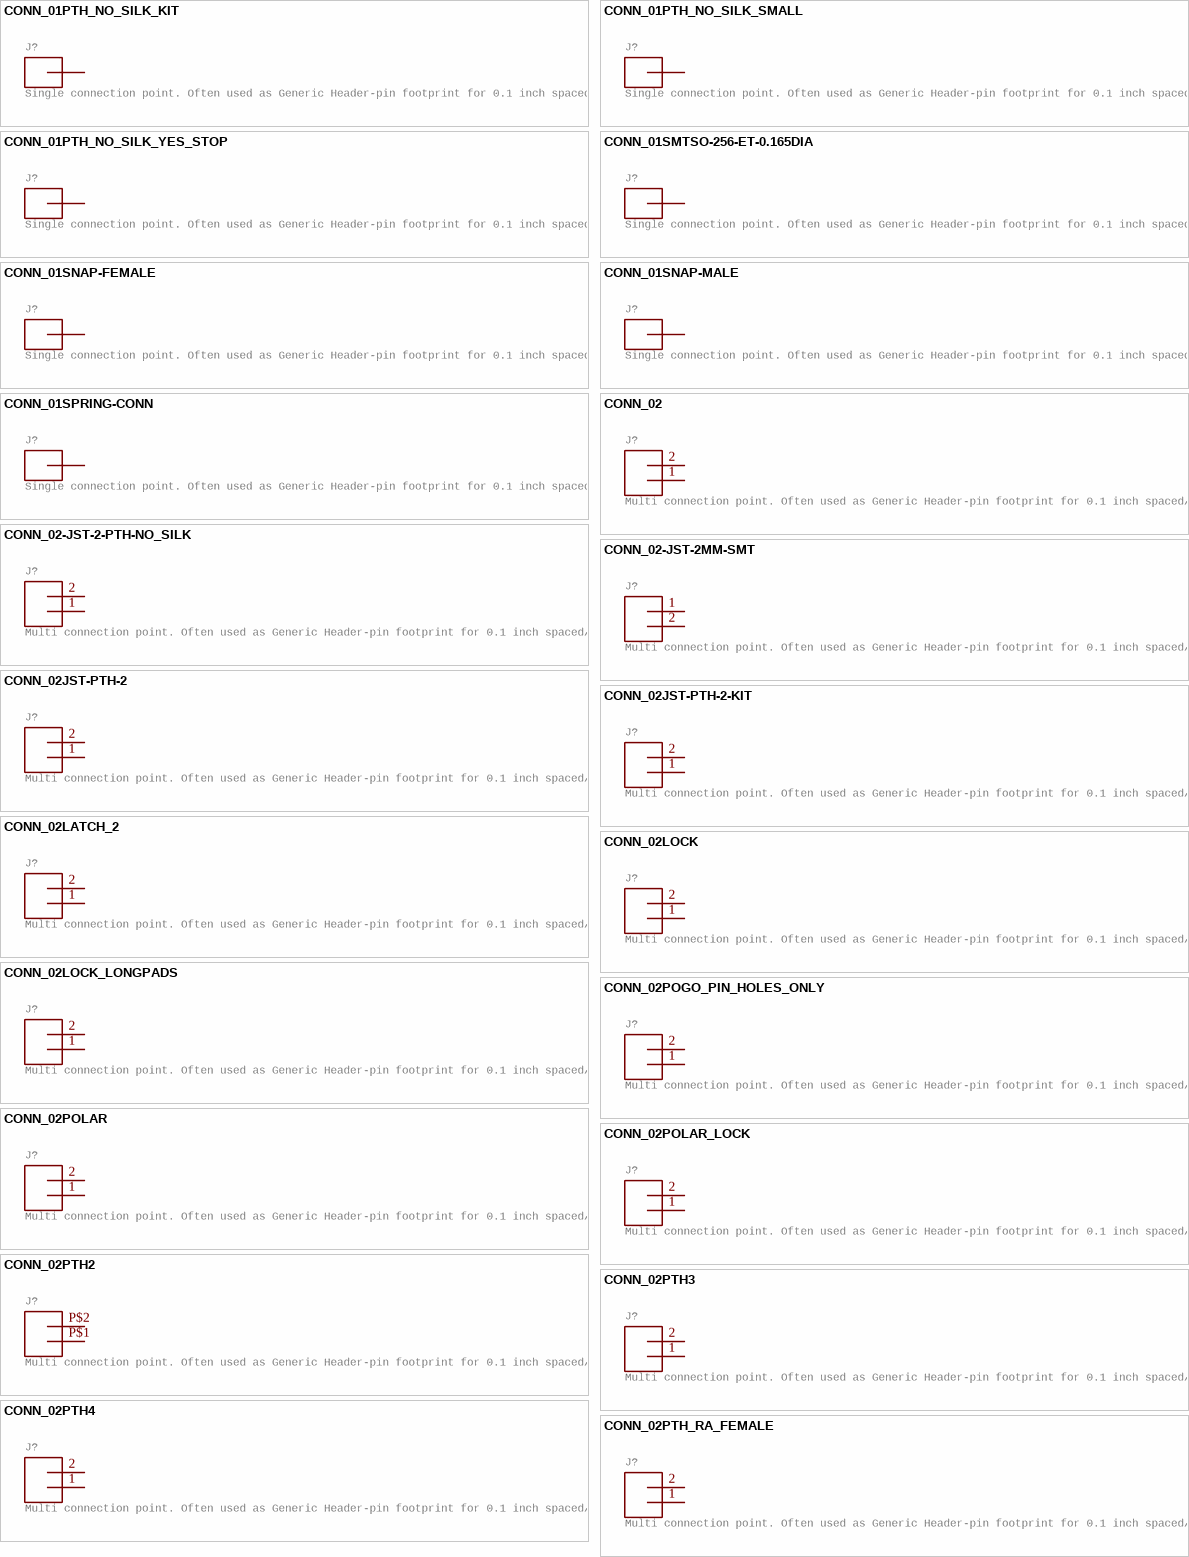
[diagram p2: symbols CONN_01PTH_NO_SILK_KIT to CONN_02PTH_RA_FEMALE]

## CONN_01PTH_NO_SILK_KIT
designator J?, comment Single connection point. Often used as Generic Header-pin footprint for 0.1 inch spaced/style header connections       On any of the 0.1 inch spaced packages, you can populate with these:   Break Away Headers - Straight (PRT-00116)   Break Away Male Headers - Right Angle (PRT-00553)   Female Headers (PRT-00115)   Break Away Headers - Machine Pin (PRT-00117)   Break Away Female Headers - Swiss Machine Pin (PRT-00743)          This device is also useful as a general connection point to wire up your design to another part of your project. Our various solder wires solder well into these plated through hole pads.   Hook-Up Wire - Assortment (Stranded, 22 AWG) (PRT-11375)   Hook-Up Wire - Assortment (Solid Core, 22 AWG) (PRT-11367)   View the entire wire category on our website here          Special notes:    SMTSO-256-ET is a "flush mount" nut for a 4-40 screw. We mostly use this on specialty testbeds; it is a nice way to connect hardware to your PCB at an adjustable hieght.    Also note, the SNAP packages are for using a snappable style connector. We sell a baggie of snaps and they are also used on two LilyPad designs:   Snap Assortment - 30 pack (male and female) (DEV-11347)  LilyPad Arduino SimpleSnap (DEV-10941)   LilyPad SimpleSnap Protoboard (DEV-10940)
GateName_1: G$1; SymbolName_1: CONN_01; DeviceName: PTH_NO_SILK_KIT; LibraryName: SparkFun-Connectors; DeviceSetName: CONN_01; Package: 1X01NS_KIT
footprint 1X01NS_KIT
pins: 1

## CONN_01PTH_NO_SILK_SMALL
designator J?, comment Single connection point. Often used as Generic Header-pin footprint for 0.1 inch spaced/style header connections       On any of the 0.1 inch spaced packages, you can populate with these:   Break Away Headers - Straight (PRT-00116)   Break Away Male Headers - Right Angle (PRT-00553)   Female Headers (PRT-00115)   Break Away Headers - Machine Pin (PRT-00117)   Break Away Female Headers - Swiss Machine Pin (PRT-00743)          This device is also useful as a general connection point to wire up your design to another part of your project. Our various solder wires solder well into these plated through hole pads.   Hook-Up Wire - Assortment (Stranded, 22 AWG) (PRT-11375)   Hook-Up Wire - Assortment (Solid Core, 22 AWG) (PRT-11367)   View the entire wire category on our website here          Special notes:    SMTSO-256-ET is a "flush mount" nut for a 4-40 screw. We mostly use this on specialty testbeds; it is a nice way to connect hardware to your PCB at an adjustable hieght.    Also note, the SNAP packages are for using a snappable style connector. We sell a baggie of snaps and they are also used on two LilyPad designs:   Snap Assortment - 30 pack (male and female) (DEV-11347)  LilyPad Arduino SimpleSnap (DEV-10941)   LilyPad SimpleSnap Protoboard (DEV-10940)
GateName_1: G$1; SymbolName_1: CONN_01; DeviceName: PTH_NO_SILK_SMALL; LibraryName: SparkFun-Connectors; DeviceSetName: CONN_01; Package: 1X01_SMALL
footprint 1X01_SMALL
pins: P$1 1

## CONN_01PTH_NO_SILK_YES_STOP
designator J?, comment Single connection point. Often used as Generic Header-pin footprint for 0.1 inch spaced/style header connections       On any of the 0.1 inch spaced packages, you can populate with these:   Break Away Headers - Straight (PRT-00116)   Break Away Male Headers - Right Angle (PRT-00553)   Female Headers (PRT-00115)   Break Away Headers - Machine Pin (PRT-00117)   Break Away Female Headers - Swiss Machine Pin (PRT-00743)          This device is also useful as a general connection point to wire up your design to another part of your project. Our various solder wires solder well into these plated through hole pads.   Hook-Up Wire - Assortment (Stranded, 22 AWG) (PRT-11375)   Hook-Up Wire - Assortment (Solid Core, 22 AWG) (PRT-11367)   View the entire wire category on our website here          Special notes:    SMTSO-256-ET is a "flush mount" nut for a 4-40 screw. We mostly use this on specialty testbeds; it is a nice way to connect hardware to your PCB at an adjustable hieght.    Also note, the SNAP packages are for using a snappable style connector. We sell a baggie of snaps and they are also used on two LilyPad designs:   Snap Assortment - 30 pack (male and female) (DEV-11347)  LilyPad Arduino SimpleSnap (DEV-10941)   LilyPad SimpleSnap Protoboard (DEV-10940)
GateName_1: G$1; SymbolName_1: CONN_01; DeviceName: PTH_NO_SILK_YES_STOP; LibraryName: SparkFun-Connectors; DeviceSetName: CONN_01; Package: 1X01_NO_SILK
footprint 1X01_NO_SILK
pins: 1

## CONN_01SMTSO-256-ET-0.165DIA
designator J?, comment Single connection point. Often used as Generic Header-pin footprint for 0.1 inch spaced/style header connections       On any of the 0.1 inch spaced packages, you can populate with these:   Break Away Headers - Straight (PRT-00116)   Break Away Male Headers - Right Angle (PRT-00553)   Female Headers (PRT-00115)   Break Away Headers - Machine Pin (PRT-00117)   Break Away Female Headers - Swiss Machine Pin (PRT-00743)          This device is also useful as a general connection point to wire up your design to another part of your project. Our various solder wires solder well into these plated through hole pads.   Hook-Up Wire - Assortment (Stranded, 22 AWG) (PRT-11375)   Hook-Up Wire - Assortment (Solid Core, 22 AWG) (PRT-11367)   View the entire wire category on our website here          Special notes:    SMTSO-256-ET is a "flush mount" nut for a 4-40 screw. We mostly use this on specialty testbeds; it is a nice way to connect hardware to your PCB at an adjustable hieght.    Also note, the SNAP packages are for using a snappable style connector. We sell a baggie of snaps and they are also used on two LilyPad designs:   Snap Assortment - 30 pack (male and female) (DEV-11347)  LilyPad Arduino SimpleSnap (DEV-10941)   LilyPad SimpleSnap Protoboard (DEV-10940)
GateName_1: G$1; SymbolName_1: CONN_01; DeviceName: SMTSO-256-ET-0.165DIA; PROD_ID: HW-08694; LibraryName: SparkFun-Connectors; DeviceSetName: CONN_01; Package: SMTSO-256-ET-0.165DIA
footprint SMTSO-256-ET-0.165DIA
pins: P$1 1

## CONN_01SNAP-FEMALE
designator J?, comment Single connection point. Often used as Generic Header-pin footprint for 0.1 inch spaced/style header connections       On any of the 0.1 inch spaced packages, you can populate with these:   Break Away Headers - Straight (PRT-00116)   Break Away Male Headers - Right Angle (PRT-00553)   Female Headers (PRT-00115)   Break Away Headers - Machine Pin (PRT-00117)   Break Away Female Headers - Swiss Machine Pin (PRT-00743)          This device is also useful as a general connection point to wire up your design to another part of your project. Our various solder wires solder well into these plated through hole pads.   Hook-Up Wire - Assortment (Stranded, 22 AWG) (PRT-11375)   Hook-Up Wire - Assortment (Solid Core, 22 AWG) (PRT-11367)   View the entire wire category on our website here          Special notes:    SMTSO-256-ET is a "flush mount" nut for a 4-40 screw. We mostly use this on specialty testbeds; it is a nice way to connect hardware to your PCB at an adjustable hieght.    Also note, the SNAP packages are for using a snappable style connector. We sell a baggie of snaps and they are also used on two LilyPad designs:   Snap Assortment - 30 pack (male and female) (DEV-11347)  LilyPad Arduino SimpleSnap (DEV-10941)   LilyPad SimpleSnap Protoboard (DEV-10940)
GateName_1: G$1; SymbolName_1: CONN_01; DeviceName: SNAP-FEMALE; LibraryName: SparkFun-Connectors; DeviceSetName: CONN_01; Package: SNAP-FEMALE
footprint SNAP-FEMALE
pins: 1